# Altium schematic symbol library MMA7361.Schlib: 1 symbol
Pins are listed as number, name and electrical type; pins without a type are passive.

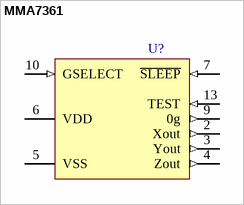
[diagram p0: symbol MMA7361]

## MMA7361
designator U?
pins: 2 Xout (out), 3 Yout (out), 4 Zout (out), 5 VSS, 6 VDD, 7 ~{SLEEP} (in), 9 0g (out), 10 GSELECT (in), 13 TEST (in)